# Altium footprint library SamacSys.PcbLib: 26 footprints (part 1 of 2)
Each footprint in its own frame and in the unit in brackets; x right, y up, seen from the top. Pads: shape width x height; smd on the part's side, far side on the other; paste and mask are expansions set on the pad; w line width, h text height; cw(c..) or ccw(c..) is an arc to the next point about the centre after c.
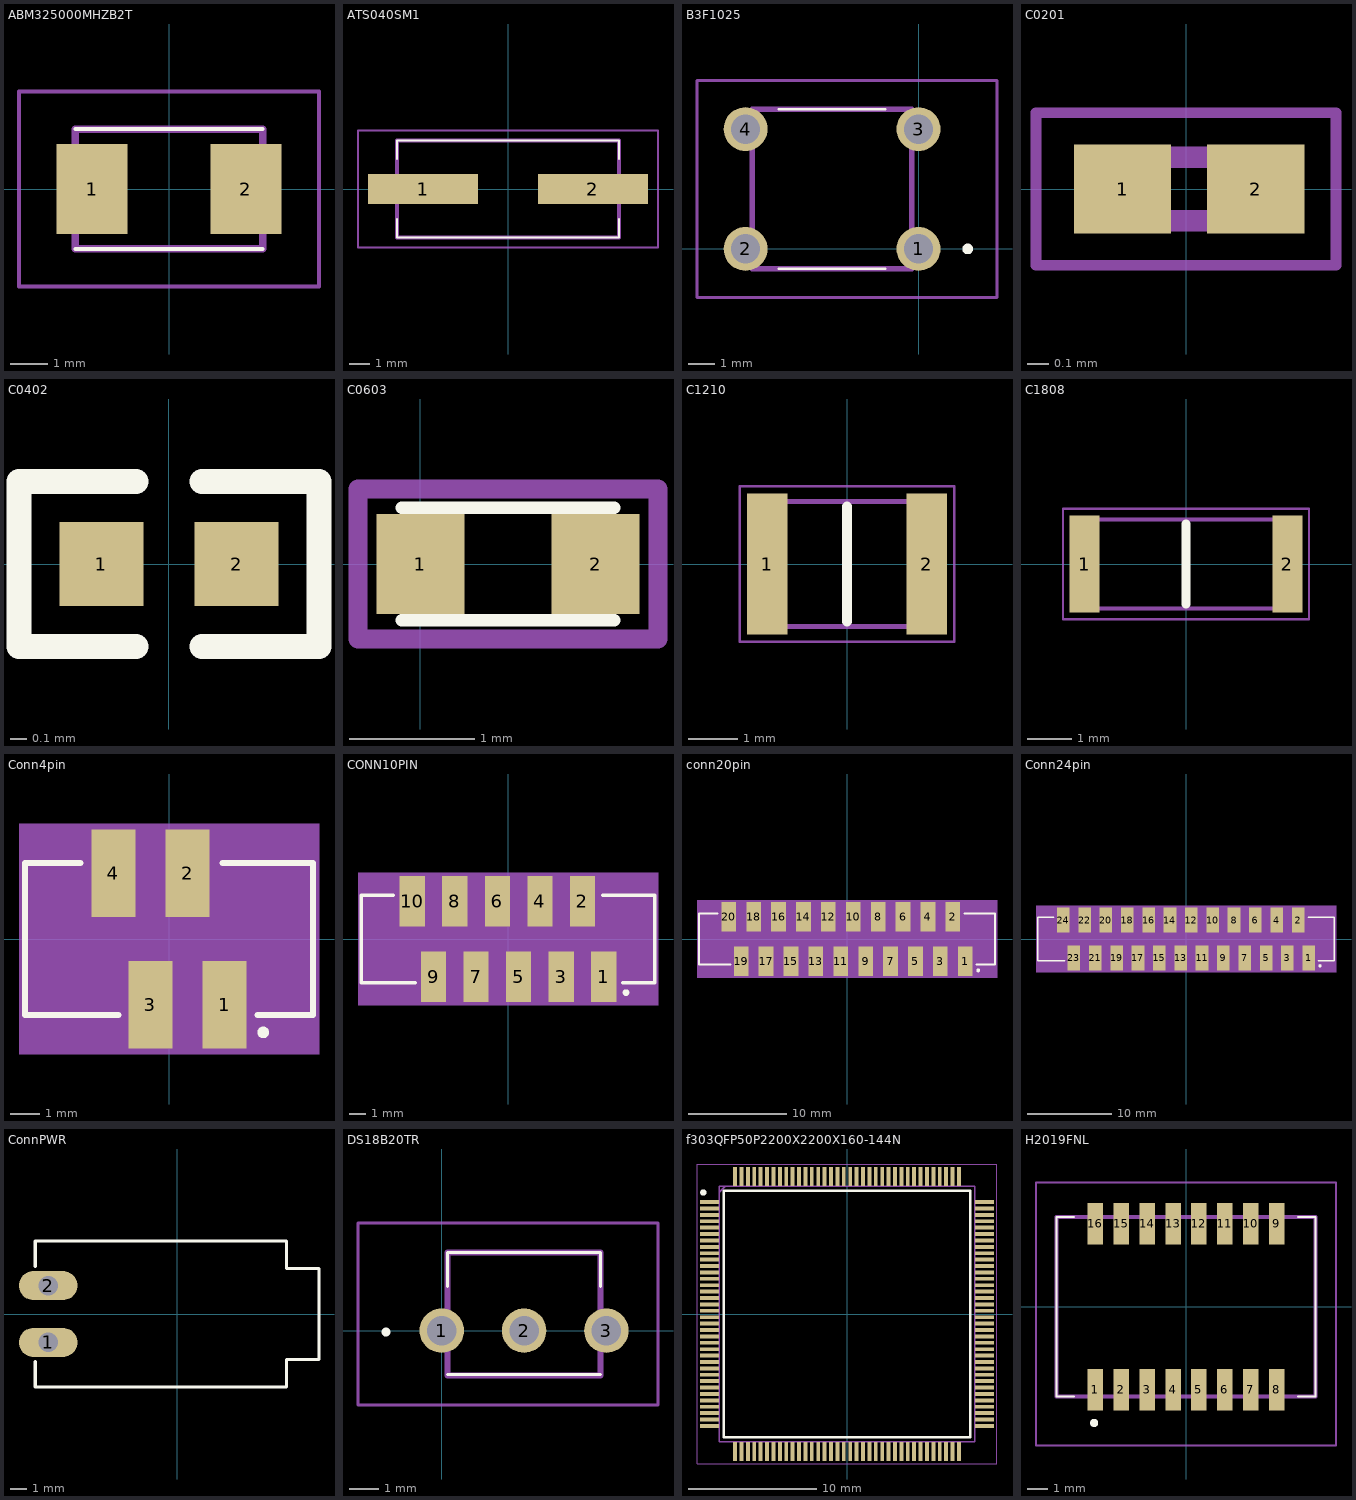
[diagram p0: the footprints below, top view; thin cyan lines are the x and y axes]

## ABM325000MHZB2T [mm]
pads (2):
  rect 1.9x2.4 smd: 1(-2.05,0) 2(2.05,0)
Top Overlay:
  lines w0.1: -2.5,-1.6 2.5,-1.6 ; -2.5,1.6 2.5,1.6
Mechanical 13:
  lines w0.2: -2.5,-1.6 2.5,-1.6 2.5,1.6 -2.5,1.6 -2.5,-1.6
Mechanical 15:
  lines w0.1: -4,-2.6 4,-2.6 4,2.6 -4,2.6 -4,-2.6
3D body "ABM3-25.000MHZ-B2-T.stp": height 1.4, standoff 0, extent -2.81,-1.6 2.81,1.6

## ATS040SM1 [mm]
pads (2):
  rect 5.5x1.5 smd: 1(-4.25,0) 2(4.25,0)
Top Overlay:
  lines w0.1: -5.55,-1.5 -5.55,-2.415 5.5,-2.415 5.55,-2.415 5.55,-1.5 ; -5.55,1.5 -5.55,2.415 5.55,2.415 5.55,1.5
Mechanical 13:
  lines w0.2: -5.55,-2.415 5.55,-2.415 5.55,2.415 -5.55,2.415 -5.55,-2.415
Mechanical 15:
  lines w0.1: -7.5,-2.915 7.5,-2.915 7.5,2.915 -7.5,2.915 -7.5,-2.915
3D body "ATS08ASM-1E.stp": height 4.4, standoff 0, extent -6.85,-2.415 6.85,2.415

## B3F1025 [mm]
pads (4):
  round 1.65 hole 1.1: 1(0,0) 2(-6.5,0) 3(0,4.5) 4(-6.5,4.5)
Top Overlay:
  lines w0.1: -5.25,-0.75 -1.25,-0.75 ; -5.25,5.25 -1.25,5.25
  lines w0.2: 1.75,0 ccw(c1.85,0) 1.95,0 ccw(c1.85,0) 1.75,0
Mechanical 13:
  lines w0.2: -6.25,-0.75 -0.25,-0.75 -0.25,5.25 -6.25,5.25 -6.25,-0.75
Mechanical 15:
  lines w0.1: -8.325,-1.825 2.95,-1.825 2.95,6.325 -8.325,6.325 -8.325,-1.825
3D body "B3F-1025.stp": height 5.3, standoff -5, extent -6.946,-0.75 0.45,5.25

## C0201 [mm]
pads (2):
  rect 0.46x0.42 smd: 1(-0.3,0) 2(0.33,0)
Mechanical 13:
  lines w0.1: -0.3,-0.15 -0.3,0.15 0.3,0.15 0.3,-0.15 -0.3,-0.15
Mechanical 15:
  lines w0.05: -0.71,-0.36 -0.71,0.36 0.71,0.36 0.71,-0.36 -0.71,-0.36
3D body "C0201C101K3GACTU.stp": height 0.33, standoff 0, extent -0.3,-0.15 0.3,0.15

## C0402 [mm] "C0402"
pads (2):
  rect 0.51x0.51 smd: 1(-0.41,0) 2(0.41,0)
Top Overlay:
  lines w0.15: -0.2,-0.5 -0.91,-0.5 -0.91,0.5 -0.2,0.5 ; 0.2,-0.5 0.91,-0.5 0.91,0.5 0.2,0.5

## C0603 [mm]
height 0.8
pads (2):
  rect 0.7x0.8 smd paste+0 mask+0.1: 1(0,0) 2(1.4,0)
Top Overlay:
  lines w0.1: -0.15,-0.45 1.55,-0.45 ; -0.15,0.45 1.55,0.45
Mechanical 2:
  lines w0.15: -0.5,-0.6 -0.5,0.6 1.9,0.6 1.9,-0.6 -0.5,-0.6
3D body: height 0.53, standoff 0, extent -0.15,-0.45 1.55,0.45

## C1210 [mm]
pads (2):
  rect 0.81x2.82 smd: 1(-1.6,0) 2(1.6,0)
Top Overlay:
  lines w0.2: 0,-1.15 0,1.15
Mechanical 13:
  lines w0.1: -1.6,-1.25 1.6,-1.25 1.6,1.25 -1.6,1.25 -1.6,-1.25
Mechanical 15:
  lines w0.05: -2.155,-1.56 2.155,-1.56 2.155,1.56 -2.155,1.56 -2.155,-1.56
3D body "C3225C0G1H473J200AA.stp": height 1.98, standoff 0.02, extent -1.4,-1.225 1.4,1.225

## C1808 [mm]
pads (2):
  rect 0.67x2.18 smd: 1(-2.28,0) 2(2.28,0)
Top Overlay:
  lines w0.2: 0,-0.9 0,0.9
Mechanical 13:
  lines w0.1: -2.275,-1 2.275,-1 2.275,1 -2.275,1 -2.275,-1
Mechanical 15:
  lines w0.05: -2.765,-1.24 2.765,-1.24 2.765,1.24 -2.765,1.24 -2.765,-1.24
3D body "C4520X7R3D471K130KA.stp": height 1.3, standoff 0, extent -2.275,-1 2.275,1

## Conn4pin [mm]
pads (4):
  rect 1.5x3 smd: 1(1.905,-2.25) 2(0.635,2.25) 3(-0.635,-2.25) 4(-1.905,2.25)
Top Overlay:
  circle w0.2: c3.23,-3.2 r0.1
  lines w0.2: -3.03,2.6 -4.94,2.6 -4.94,-2.6 -1.73,-2.6 ; 1.83,2.6 4.94,2.6 4.94,-2.6 3.03,-2.6
Mechanical 13:
  lines w0.1: -4.84,-2.5 4.84,-2.5 4.84,2.5 -4.84,2.5 -4.84,-2.5
Mechanical 15:
  region: 5.14,-3.95 -5.14,-3.95 -5.14,3.95 5.14,3.95

## CONN10PIN [mm]
pads (10):
  rect 1.5x3 smd: 1(5.715,-2.25) 2(4.445,2.25) 3(3.175,-2.25) 4(1.905,2.25) 5(0.635,-2.25) 6(-0.635,2.25) 7(-1.905,-2.25) 8(-3.175,2.25) 9(-4.445,-2.25) 10(-5.715,2.25)
Top Overlay:
  circle w0.2: c7.04,-3.2 r0.1
  lines w0.2: -6.84,2.6 -8.75,2.6 -8.75,-2.6 -5.54,-2.6 ; 5.64,2.6 8.75,2.6 8.75,-2.6 6.84,-2.6
Mechanical 13:
  lines w0.1: -8.65,-2.5 8.65,-2.5 8.65,2.5 -8.65,2.5 -8.65,-2.5
Mechanical 15:
  region: 8.95,-3.95 -8.95,-3.95 -8.95,3.95 8.95,3.95

## conn20pin [mm]
pads (20):
  rect 1.5x3 smd: 1(12.065,-2.25) 2(10.795,2.25) 3(9.525,-2.25) 4(8.255,2.25) 5(6.985,-2.25) 6(5.715,2.25) 7(4.445,-2.25) 8(3.175,2.25) 9(1.905,-2.25) 10(0.635,2.25) 11(-0.635,-2.25) 12(-1.905,2.25) 13(-3.175,-2.25) 14(-4.445,2.25) 15(-5.715,-2.25) 16(-6.985,2.25) 17(-8.255,-2.25) 18(-9.525,2.25) 19(-10.795,-2.25) 20(-12.065,2.25)
Top Overlay:
  circle w0.2: c13.39,-3.2 r0.1
  lines w0.2: -13.19,2.6 -15.1,2.6 -15.1,-2.6 -11.89,-2.6 ; 11.99,2.6 15.1,2.6 15.1,-2.6 13.19,-2.6
Mechanical 13:
  lines w0.1: -15,-2.5 -15,2.5 15,2.5 15,-2.5 -15,-2.5
Mechanical 15:
  region: 15.3,-3.95 -15.3,-3.95 -15.3,3.95 15.3,3.95

## Conn24pin [mm]
pads (24):
  rect 1.5x3 smd: 1(14.605,-2.25) 2(13.335,2.25) 3(12.065,-2.25) 4(10.795,2.25) 5(9.525,-2.25) 6(8.255,2.25) 7(6.985,-2.25) 8(5.715,2.25) 9(4.445,-2.25) 10(3.175,2.25) 11(1.905,-2.25) 12(0.635,2.25) 13(-0.635,-2.25) 14(-1.905,2.25) 15(-3.175,-2.25) 16(-4.445,2.25) 17(-5.715,-2.25) 18(-6.985,2.25) 19(-8.255,-2.25) 20(-9.525,2.25) 21(-10.795,-2.25) 22(-12.065,2.25) 23(-13.335,-2.25) 24(-14.605,2.25)
Top Overlay:
  circle w0.2: c15.93,-3.2 r0.1
  lines w0.2: -15.73,2.6 -17.64,2.6 -17.64,-2.6 -14.43,-2.6 ; 14.53,2.6 17.64,2.6 17.64,-2.6 15.73,-2.6
Mechanical 13:
  lines w0.1: -17.54,-2.5 -17.54,2.5 17.54,2.5 17.54,-2.5 -17.54,-2.5
Mechanical 15:
  region: 17.84,-3.95 -17.84,-3.95 -17.84,3.95 17.84,3.95

## ConnPWR [mm]
pads (2):
  oval 3.6x1.8 hole 1.2: 1(-7.95,-1.75) 2(-7.95,1.75)
Top Overlay:
  lines w0.2: -8.75,-2.95 -8.75,-4.5 6.75,-4.5 6.75,-2.8 8.75,-2.8 8.75,2.8 6.75,2.8 6.75,4.5 -8.75,4.5 -8.75,2.95

## DS18B20TR [mm]
pads (3):
  round 1.512 hole 1.008: 1(0,0) 2(2.8,0) 3(5.6,0)
Top Overlay:
  lines w0.1: 0.195,2.66 0.195,1.5 0.195,2.66 ; 0.195,2.66 5.405,2.66 ; 0.195,2.66 5.405,2.66 ; 5.405,2.66 5.405,1.5 5.405,2.66 ; 0.195,-1.5 5.405,-1.5 0.195,-1.5
  lines w0.2: -1.9,-0.1 ccw(c-1.9,-0.05) -1.9,0 ; -1.9,-0.1 cw(c-1.9,-0.05) -1.9,0 ; -1.9,-0.1 ccw(c-1.9,-0.05) -1.9,0
Mechanical 13:
  lines w0.2: 0.195,-1.53 5.405,-1.53 5.405,2.66 0.195,2.66 0.195,-1.53
Mechanical 15:
  lines w0.1: -2.85,-2.53 7.356,-2.53 7.356,3.66 -2.85,3.66 -2.85,-2.53
3D body "DS18B20+T&R.stp": height 10.51, standoff -5, extent -0.401,-1.53 6.004,2.66

## f303QFP50P2200X2200X160-144N [mm]
pads (144):
  rect 1.475x0.3 smd: 1(-10.738,8.75) 2(-10.738,8.25) 3(-10.738,7.75) 4(-10.738,7.25) 5(-10.738,6.75) 6(-10.738,6.25) 7(-10.738,5.75) 8(-10.738,5.25) 9(-10.738,4.75) 10(-10.738,4.25) 11(-10.738,3.75) 12(-10.738,3.25) 13(-10.738,2.75) 14(-10.738,2.25) 15(-10.738,1.75) 16(-10.738,1.25) 17(-10.738,0.75) 18(-10.738,0.25) 19(-10.738,-0.25) 20(-10.738,-0.75) 21(-10.738,-1.25) 22(-10.738,-1.75) 23(-10.738,-2.25) 24(-10.738,-2.75) 25(-10.738,-3.25) 26(-10.738,-3.75) 27(-10.738,-4.25) 28(-10.738,-4.75) 29(-10.738,-5.25) 30(-10.738,-5.75) 31(-10.738,-6.25) 32(-10.738,-6.75) 33(-10.738,-7.25) 34(-10.738,-7.75) 35(-10.738,-8.25) 36(-10.738,-8.75) 73(10.738,-8.75) 74(10.738,-8.25) 75(10.738,-7.75) 76(10.738,-7.25) 77(10.738,-6.75) 78(10.738,-6.25) 79(10.738,-5.75) 80(10.738,-5.25) 81(10.738,-4.75) 82(10.738,-4.25) 83(10.738,-3.75) 84(10.738,-3.25) 85(10.738,-2.75) 86(10.738,-2.25) 87(10.738,-1.75) 88(10.738,-1.25) 89(10.738,-0.75) 90(10.738,-0.25) 91(10.738,0.25) 92(10.738,0.75) 93(10.738,1.25) 94(10.738,1.75) 95(10.738,2.25) 96(10.738,2.75) 97(10.738,3.25) 98(10.738,3.75) 99(10.738,4.25) 100(10.738,4.75) 101(10.738,5.25) 102(10.738,5.75) 103(10.738,6.25) 104(10.738,6.75) 105(10.738,7.25) 106(10.738,7.75) 107(10.738,8.25) 108(10.738,8.75)
  rect 0.3x1.475 smd: 37(-8.75,-10.738) 38(-8.25,-10.738) 39(-7.75,-10.738) 40(-7.25,-10.738) 41(-6.75,-10.738) 42(-6.25,-10.738) 43(-5.75,-10.738) 44(-5.25,-10.738) 45(-4.75,-10.738) 46(-4.25,-10.738) 47(-3.75,-10.738) 48(-3.25,-10.738) 49(-2.75,-10.738) 50(-2.25,-10.738) 51(-1.75,-10.738) 52(-1.25,-10.738) 53(-0.75,-10.738) 54(-0.25,-10.738) 55(0.25,-10.738) 56(0.75,-10.738) 57(1.25,-10.738) 58(1.75,-10.738) 59(2.25,-10.738) 60(2.75,-10.738) 61(3.25,-10.738) 62(3.75,-10.738) 63(4.25,-10.738) 64(4.75,-10.738) 65(5.25,-10.738) 66(5.75,-10.738) 67(6.25,-10.738) 68(6.75,-10.738) 69(7.25,-10.738) 70(7.75,-10.738) 71(8.25,-10.738) 72(8.75,-10.738) 109(8.75,10.738) 110(8.25,10.738) 111(7.75,10.738) 112(7.25,10.738) 113(6.75,10.738) 114(6.25,10.738) 115(5.75,10.738) 116(5.25,10.738) 117(4.75,10.738) 118(4.25,10.738) 119(3.75,10.738) 120(3.25,10.738) 121(2.75,10.738) 122(2.25,10.738) 123(1.75,10.738) 124(1.25,10.738) 125(0.75,10.738) 126(0.25,10.738) 127(-0.25,10.738) 128(-0.75,10.738) 129(-1.25,10.738) 130(-1.75,10.738) 131(-2.25,10.738) 132(-2.75,10.738) 133(-3.25,10.738) 134(-3.75,10.738) 135(-4.25,10.738) 136(-4.75,10.738) 137(-5.25,10.738) 138(-5.75,10.738) 139(-6.25,10.738) 140(-6.75,10.738) 141(-7.25,10.738) 142(-7.75,10.738) 143(-8.25,10.738) 144(-8.75,10.738)
Top Overlay:
  circle w0.25: c-11.225,9.5 r0.125
  lines w0.2: -9.65,-9.65 9.65,-9.65 9.65,9.65 -9.65,9.65 -9.65,-9.65
Mechanical 13:
  lines w0.1: -10,9.5 -9.5,10 ; -10,-10 10,-10 10,10 -10,10 -10,-10
Mechanical 15:
  lines w0.05: -11.725,-11.725 11.725,-11.725 11.725,11.725 -11.725,11.725 -11.725,-11.725
3D body "STM32F429ZGT6.stp": height 1.6, standoff 0, extent -11,-11 11,11

## H2019FNL [mm]
pads (16):
  rect 0.76x2.035 smd: 1(-4.445,-4.063) 2(-3.175,-4.063) 3(-1.905,-4.063) 4(-0.635,-4.063) 5(0.635,-4.063) 6(1.905,-4.063) 7(3.175,-4.063) 8(4.445,-4.063) 9(4.445,4.063) 10(3.175,4.063) 11(1.905,4.063) 12(0.635,4.063) 13(-0.635,4.063) 14(-1.905,4.063) 15(-3.175,4.063) 16(-4.445,4.063)
Top Overlay:
  lines w0.1: -5.5,-4.395 -6.35,-4.395 -6.35,4.395 -5.5,4.395 ; 5.5,-4.395 6.35,-4.395 6.35,4.395 5.5,4.395
  lines w0.2: -4.6,-5.7 cw(c-4.5,-5.7) -4.4,-5.7 cw(c-4.5,-5.7) -4.6,-5.7
Mechanical 13:
  lines w0.2: -6.35,-4.395 -6.35,4.395 6.35,4.395 6.35,-4.395 -6.35,-4.395
Mechanical 15:
  lines w0.1: -7.35,-6.8 -7.35,6.08 7.35,6.08 7.35,-6.8 -7.35,-6.8
3D body "H2019FNL.stp": height 6.2, standoff 0, extent -6.35,-4.395 6.35,4.395